# EAGLE library part K-HEADER-MALE-2X9- (library elpp-tht-v1.2)
PIN HEADER 2 rows, 90 degrees
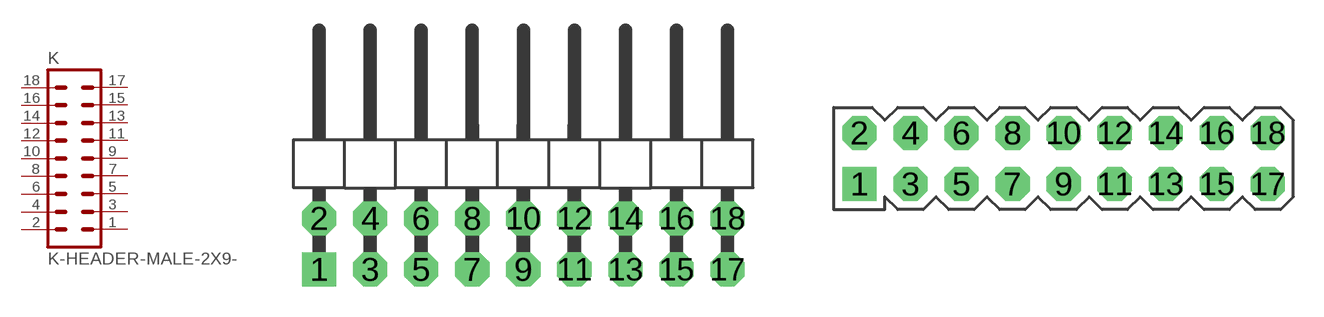
[diagram p35: symbol with the pads of ELPP-DIL-M-18-WAY-H; footprints ELPP-DIL-M-18-WAY-H, ELPP-DIL-M-18-WAY-V]

Designator prefix K

## K-HEADER-MALE-2X9-H (FARNELL: 1056023; RS: 6812666)  [ELPP-DIL-M-18-WAY-H]
1  1  pas
2  2  pas
3  3  pas
4  4  pas
5  5  pas
6  6  pas
7  7  pas
8  8  pas
9  9  pas
10  10  pas
11  11  pas
12  12  pas
13  13  pas
14  14  pas
15  15  pas
16  16  pas
17  17  pas
18  18  pas

## K-HEADER-MALE-2X9-V (FARNELL: 1098460; RS: 6812067)  [ELPP-DIL-M-18-WAY-V]
Pads as for ELPP-DIL-M-18-WAY-H

## Footprint ELPP-DIL-M-18-WAY-H (pad centres in mm)
PIN HEADER, 2 rows, 90 degrees
drill 1 pad 1.7 square: 1 -10.16,-1.27
drill 1 pad 1.7 octagon: 2 -10.16,1.27; 3 -7.62,-1.27; 4 -7.62,1.27; 5 -5.08,-1.27; 6 -5.08,1.27; 7 -2.54,-1.27; 8 -2.54,1.27; 9 0,-1.27; 10 0,1.27; 11 2.54,-1.27; 12 2.54,1.27; 13 5.08,-1.27; 14 5.08,1.27; 15 7.62,-1.27; 16 7.62,1.27; 17 10.16,-1.27; 18 10.16,1.27

## Footprint ELPP-DIL-M-18-WAY-V (pad centres in mm)
drill 1 pad 1.7 square: 1 -10.16,-1.27
drill 1 pad 1.7 octagon: 2 -10.16,1.27; 3 -7.62,-1.27; 4 -7.62,1.27; 5 -5.08,-1.27; 6 -5.08,1.27; 7 -2.54,-1.27; 8 -2.54,1.27; 9 0,-1.27; 10 0,1.27; 11 2.54,-1.27; 12 2.54,1.27; 13 5.08,-1.27; 14 5.08,1.27; 15 7.62,-1.27; 16 7.62,1.27; 17 10.16,-1.27; 18 10.16,1.27